# Altium footprint library mini_USB.PCBLIB: 1 footprints
Each footprint in its own frame and in the unit in brackets; x right, y up, seen from the top. Pads: shape width x height; smd on the part's side, far side on the other; paste and mask are expansions set on the pad; w line width, h text height; cw(c..) or ccw(c..) is an arc to the next point about the centre after c.
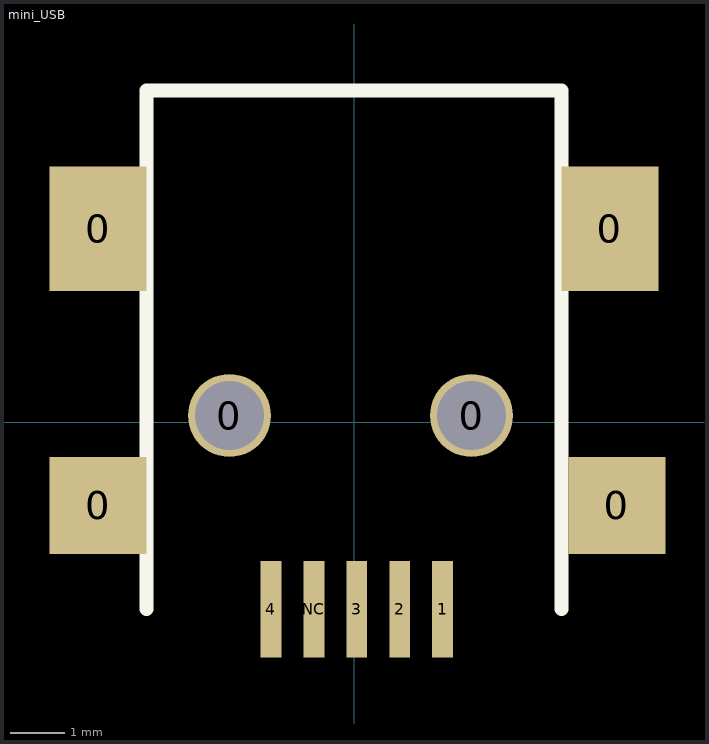
[diagram p0: the footprint, top view; thin cyan lines are the x and y axes]

## mini_USB [mil]
pads (11):
  rect 70x70 smd: 0(-185,-60) 0(190,-60)
  rect 70x90 smd: 0(-185,140) 0(185,140)
  round 60 hole 50: 0(-90,5) 0(85,5)
  rect 15x70 smd: 1(64,-135) 2(33,-135) 3(2,-135) 4(-60,-135) NC(-29,-135)
Top Overlay:
  lines w10: -150,-135 -150,240 150,240 150,-135